# EAGLE library part 24LC1025T-I/SN (library _RoweTel)
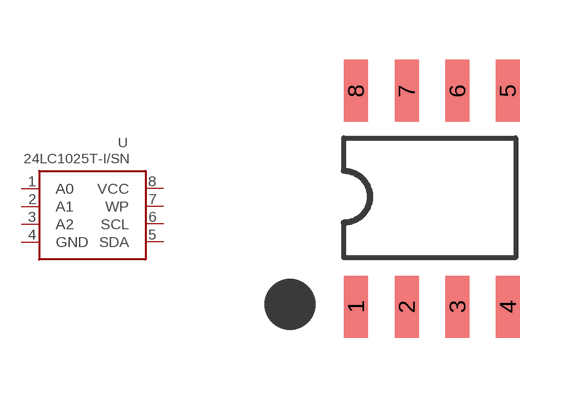
[diagram p1: symbol with the pads of 8-SOICN; footprint 8-SOICN]

Designator prefix U

## 24LC1025T-I/SN  [8-SOICN]
1  A0  in
2  A1  in
3  A2  in
4  GND  pwr
5  SDA
6  SCL  in
7  WP  in
8  VCC  pwr

## Footprint 8-SOICN (pad centres in mm)
smd 0.6 x 1.55: 1 -1.9,-2.7; 2 -0.63,-2.7; 3 0.64,-2.7; 4 1.9,-2.7; 5 1.9,2.7; 6 0.64,2.7; 7 -0.63,2.7; 8 -1.9,2.7